# Altium schematic symbol library Diode.SchLib: 12 symbols
Pins are listed as number, name and electrical type; pins without a type are passive.

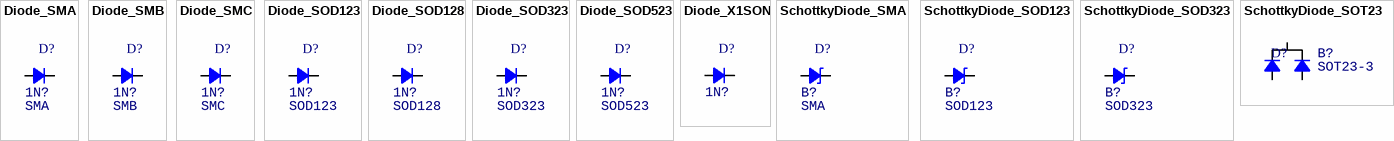
[diagram p0: symbols Diode_SMA to SchottkyDiode_SOT23]

## Diode_SMA
designator D?, comment Type: SMA  (hidden comment: 1N?)
Diode; Value: 1N?
footprint DO-214AC (SMA)
pins: 1 A, 2 K

## Diode_SMB
designator D?, comment Type: SMB  (hidden comment: 1N?)
Diode; Value: 1N?
footprint DO-214AA (SMB)
pins: 1 A, 2 K

## Diode_SMC
designator D?, comment Type: SMC  (hidden comment: 1N?)
Diode; Value: 1N?
footprint DO-214AB (SMC)
pins: 1 A, 2 K

## Diode_SOD123
designator D?, comment Type: SOD123  (hidden comment: 1N?)
Diode; Value: 1N?
footprint SOD-123
pins: 1 A, 2 K

## Diode_SOD128
designator D?, comment Type: SOD128  (hidden comment: 1N?)
Diode; Value: 1N?
footprint SOD-128
pins: 1 A, 2 K

## Diode_SOD323
designator D?, comment Type: SOD323  (hidden comment: 1N?)
Diode; Value: 1N?
footprint SOD-323
pins: 1 A, 2 K

## Diode_SOD523
designator D?, comment Type: SOD523  (hidden comment: 1N?)
Diode; Value: 1N?
footprint SOD-523
pins: 1 A, 2 K

## Diode_X1SON
designator D?, comment 1N?
Diode; Type: X1SON; Value: 1N?
footprint X1SON
pins: 1 K, 2 A

## SchottkyDiode_SMA
designator D?, comment Type: SMA  (hidden comment: B?)
Schottky Diode; Value: B?
footprint SMA
pins: 1 A, 2 K

## SchottkyDiode_SOD123
designator D?, comment Type: SOD123  (hidden comment: B?)
Schottky Diode; Value: B?
footprint SOD-123
pins: 1 A, 2 K

## SchottkyDiode_SOD323
designator D?, comment Type: SOD323  (hidden comment: B?)
Schottky Diode; Value: B?
footprint SOD-323
pins: 1 A, 2 K

## SchottkyDiode_SOT23
designator D?, comment Type: SOT23-3  (hidden comment: B?)
Schottky Diode; Value: B?
footprint SOT23-3
footprint SOT1061D
pins: 1 A, 2 A, 3 K